# EAGLE library part TMM-110-XX-X-D (library con-samtec-tmm)
HEADER
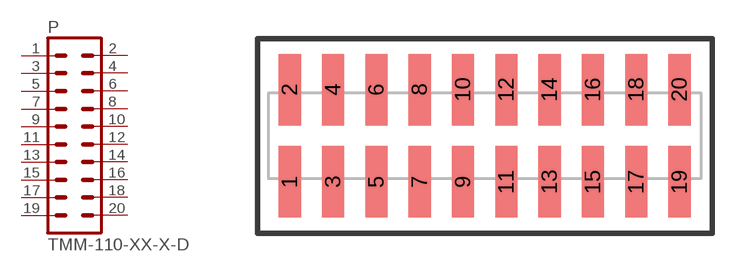
[diagram p7: symbol with the pads of TMM-110-XX-X-D; footprint TMM-110-XX-X-D]

Designator prefix P

## TMM-110-XX-X-D  [TMM-110-XX-X-D]
1  1  pas
2  2  pas
3  3  pas
4  4  pas
5  5  pas
6  6  pas
7  7  pas
8  8  pas
9  9  pas
10  10  pas
11  11  pas
12  12  pas
13  13  pas
14  14  pas
15  15  pas
16  16  pas
17  17  pas
18  18  pas
19  19  pas
20  20  pas

## Footprint TMM-110-XX-X-D (pad centres in mm)
HEADER
smd 1.02 x 3.3: 1 -9,-2.134; 2 -9,2.134; 3 -7,-2.134; 4 -7,2.134; 5 -5,-2.134; 6 -5,2.134; 7 -3,-2.134; 8 -3,2.134; 9 -1,-2.134; 10 -1,2.134; 11 1,-2.134; 12 1,2.134; 13 3,-2.134; 14 3,2.134; 15 5,-2.134; 16 5,2.134; 17 7,-2.134; 18 7,2.134; 19 9,-2.134; 20 9,2.134